# Altium footprint library WiPhoneDB_PcbLib.PcbLib: 1 footprints
Each footprint in its own frame and in the unit in brackets; x right, y up, seen from the top. Pads: shape width x height; smd on the part's side, far side on the other; paste and mask are expansions set on the pad; w line width, h text height; cw(c..) or ccw(c..) is an arc to the next point about the centre after c.
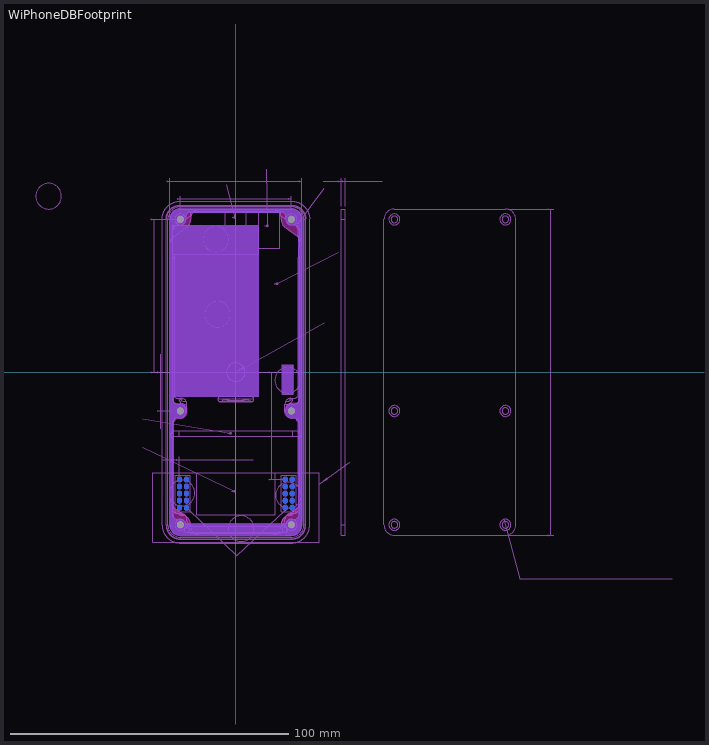
[diagram p0: the footprint, top view; thin cyan lines are the x and y axes]

## WiPhoneDBFootprint [mm]
pads (32):
  round 1 on Mech2: 1(-1.899,-21.979) 1(-0.408,-42.932) 1(-0.379,55.737) 1(11.341,52.675) 1(14.81,31.802) 1(22.462,53.708)
  round 1.75 smd far side paste-1: 1(17.78,-38.67) 2(20.32,-38.67) 3(17.78,-41.21) 4(20.32,-41.21) 5(17.78,-43.75) 6(20.32,-43.75) 7(17.78,-46.29) 8(20.32,-46.29) 9(17.78,-48.83) 10(20.32,-48.83) 12(-17.78,-38.67) 13(-20.32,-41.21) 14(-17.78,-41.21) 15(-20.32,-43.75) 16(-17.78,-43.75) 17(-20.32,-46.29) 18(-17.78,-46.29) 19(-20.32,-48.83) 20(-17.78,-48.83)
  rrect50% 1.75x1.75 smd far side paste-1: 11(-20.32,-38.67)
  round 2.4 hole 2.4 unplated paste-1: ""(-20.005,-14) ""(-20,-55) ""(-20,55) ""(20,-55) ""(20,-14) ""(20,55)
Top Layer keep-out:
  region: 23.749,-54.991 23.749,-55.241 23.684,-55.736 23.555,-56.218 23.363,-56.68 23.114,-57.112 22.81,-57.508 22.457,-57.862 22.06,-58.166 21.628,-58.415 21.166,-58.606 20.684,-58.736 20.189,-58.801 19.939,-58.801 12.954,-58.801 14.605,-58.293 15.512,-57.386 15.679,-57.201 15.956,-56.787 16.147,-56.327 16.244,-55.839 16.256,-55.59 16.256,-54.904 16.253,-54.67 16.309,-54.205 16.427,-53.752 16.605,-53.319 16.838,-52.913 17.124,-52.542 17.456,-52.213 17.83,-51.931 18.034,-51.816 18.613,-51.386 19.779,-50.537 20.954,-49.701 22.138,-48.877 22.734,-48.472 23.386,-47.389 23.564,-46.736 23.749,-46.736
  region: -23.812,-54.991 -23.812,-55.241 -23.747,-55.736 -23.618,-56.218 -23.427,-56.68 -23.177,-57.112 -22.873,-57.508 -22.52,-57.862 -22.124,-58.166 -21.691,-58.415 -21.23,-58.606 -20.747,-58.736 -20.252,-58.801 -20.003,-58.801 -20.002,-58.801 -13.018,-58.801 -14.669,-58.293 -15.576,-57.386 -15.743,-57.201 -16.02,-56.787 -16.21,-56.327 -16.307,-55.839 -16.319,-55.59 -16.32,-55.59 -16.32,-54.904 -16.316,-54.67 -16.373,-54.205 -16.491,-53.752 -16.668,-53.319 -16.902,-52.913 -17.187,-52.542 -17.52,-52.213 -17.894,-51.931 -18.098,-51.816 -18.676,-51.386 -19.842,-50.537 -21.017,-49.701 -22.201,-48.877 -22.797,-48.472 -23.45,-47.389 -23.628,-46.736 -23.812,-46.736
  region: -23.749,54.991 -23.749,55.241 -23.684,55.736 -23.555,56.218 -23.363,56.68 -23.114,57.112 -22.81,57.508 -22.457,57.862 -22.06,58.166 -21.628,58.415 -21.166,58.606 -20.684,58.736 -20.189,58.801 -19.939,58.801 -12.954,58.801 -14.605,58.293 -15.512,57.386 -15.679,57.201 -15.956,56.787 -16.147,56.327 -16.244,55.839 -16.256,55.59 -16.256,54.904 -16.253,54.67 -16.309,54.205 -16.427,53.752 -16.605,53.319 -16.838,52.913 -17.124,52.542 -17.456,52.213 -17.83,51.931 -18.034,51.816 -18.613,51.386 -19.779,50.537 -20.954,49.701 -22.138,48.877 -22.734,48.472 -23.386,47.389 -23.564,46.736 -23.749,46.736
  region: 23.812,54.991 23.812,55.241 23.747,55.736 23.618,56.218 23.427,56.68 23.177,57.112 22.873,57.508 22.52,57.862 22.124,58.166 21.691,58.415 21.23,58.606 20.747,58.736 20.252,58.801 20.003,58.801 20.002,58.801 13.018,58.801 14.669,58.293 15.576,57.386 15.743,57.201 16.02,56.787 16.21,56.327 16.307,55.839 16.319,55.59 16.32,55.59 16.32,54.904 16.316,54.67 16.373,54.205 16.491,53.752 16.668,53.319 16.902,52.913 17.187,52.542 17.52,52.213 17.894,51.931 18.098,51.816 18.676,51.386 19.842,50.537 21.017,49.701 22.201,48.877 22.797,48.472 23.45,47.389 23.628,46.736 23.812,46.736
  region: 22.982,-18.983 22.971,-18.76 22.884,-18.323 22.714,-17.912 22.466,-17.541 22.151,-17.226 21.781,-16.979 21.369,-16.808 20.932,-16.721 20.709,-16.71 20.057,-16.71 19.816,-16.725 19.337,-16.66 18.88,-16.503 18.462,-16.26 18.099,-15.939 17.806,-15.555 17.594,-15.12 17.471,-14.652 17.456,-14.411 17.456,-13.711 17.455,-13.454 17.555,-12.951 17.751,-12.478 18.035,-12.051 18.398,-11.689 18.824,-11.404 19.298,-11.208 19.801,-11.109 20.057,-11.109 21.204,-11.109 21.378,-11.1 21.72,-11.032 22.042,-10.899 22.332,-10.705 22.578,-10.459 22.772,-10.169 22.905,-9.847 22.973,-9.505 22.982,-9.331
  region: 23.749,-51.181 23.749,-54.991 23.749,-55.241 23.684,-55.736 23.555,-56.218 23.363,-56.68 23.114,-57.112 22.81,-57.509 22.456,-57.862 22.06,-58.166 21.628,-58.415 21.166,-58.607 20.684,-58.736 20.189,-58.801 19.939,-58.801 14.732,-58.801 14.732,-57.756 14.884,-57.805 15.197,-57.866 15.516,-57.877 15.832,-57.836 16.137,-57.744 16.424,-57.605 16.685,-57.422 16.913,-57.199 17.102,-56.942 17.248,-56.658 17.346,-56.355 17.394,-56.039 17.399,-55.88 17.333,-55.668 17.27,-55.229 17.279,-54.786 17.358,-54.35 17.506,-53.932 17.719,-53.543 17.991,-53.193 18.316,-52.891 18.685,-52.645 19.088,-52.461 19.516,-52.344 19.957,-52.297 20.178,-52.309 20.355,-52.381 20.726,-52.464 21.107,-52.465 21.479,-52.383 21.824,-52.223 22.126,-51.991 22.371,-51.7 22.547,-51.362 22.606,-51.181
  region: -16.181,-58.749 -19.991,-58.749 -20.241,-58.749 -20.736,-58.684 -21.218,-58.555 -21.68,-58.363 -22.112,-58.114 -22.509,-57.81 -22.862,-57.456 -23.166,-57.06 -23.415,-56.628 -23.607,-56.166 -23.736,-55.684 -23.801,-55.189 -23.801,-54.939 -23.801,-49.732 -22.756,-49.732 -22.805,-49.884 -22.866,-50.197 -22.877,-50.516 -22.836,-50.832 -22.744,-51.137 -22.605,-51.424 -22.422,-51.685 -22.199,-51.913 -21.942,-52.102 -21.658,-52.248 -21.355,-52.346 -21.04,-52.394 -20.88,-52.399 -20.668,-52.333 -20.229,-52.27 -19.786,-52.279 -19.35,-52.358 -18.932,-52.506 -18.543,-52.719 -18.193,-52.991 -17.891,-53.316 -17.645,-53.685 -17.461,-54.088 -17.344,-54.516 -17.297,-54.957 -17.309,-55.178 -17.381,-55.355 -17.464,-55.726 -17.465,-56.107 -17.383,-56.479 -17.223,-56.824 -16.991,-57.126 -16.7,-57.371 -16.362,-57.547 -16.181,-57.606
  region: 16.181,58.749 19.991,58.749 20.241,58.749 20.736,58.684 21.218,58.555 21.68,58.363 22.112,58.114 22.509,57.81 22.862,57.456 23.166,57.06 23.415,56.628 23.607,56.166 23.736,55.684 23.801,55.189 23.801,54.939 23.801,49.732 22.756,49.732 22.805,49.884 22.866,50.197 22.877,50.516 22.836,50.832 22.744,51.137 22.605,51.424 22.422,51.685 22.199,51.913 21.942,52.102 21.658,52.248 21.355,52.346 21.04,52.394 20.88,52.399 20.668,52.333 20.229,52.27 19.786,52.279 19.35,52.358 18.932,52.506 18.543,52.719 18.193,52.991 17.891,53.316 17.645,53.685 17.461,54.088 17.344,54.516 17.297,54.957 17.309,55.178 17.381,55.355 17.464,55.726 17.465,56.107 17.383,56.479 17.223,56.824 16.991,57.126 16.7,57.371 16.362,57.547 16.181,57.606
  region: -23.749,51.181
  region: -16.181,-58.674 -16.181,-57.785 15.621,-57.785 15.621,-58.674
  region: -14.732,57.912 -14.732,58.801 16.256,58.801 16.256,57.912
  region: -23.749,51.181 -23.749,-50.8 -22.987,-50.8 -22.987,51.181
  region: 22.987,51.181 22.987,-51.181 23.749,-51.181 23.749,51.181
  region: -23.749,51.181 -23.749,54.991 -23.749,55.241 -23.684,55.736 -23.555,56.218 -23.363,56.68 -23.114,57.112 -22.81,57.509 -22.456,57.862 -22.06,58.166 -21.628,58.415 -21.166,58.607 -20.684,58.736 -20.189,58.801 -19.939,58.801 -14.732,58.801 -14.732,57.756 -14.884,57.805 -15.197,57.866 -15.516,57.877 -15.832,57.836 -16.137,57.744 -16.424,57.605 -16.685,57.422 -16.913,57.199 -17.102,56.942 -17.248,56.658 -17.346,56.355 -17.394,56.039 -17.399,55.88 -17.333,55.668 -17.27,55.229 -17.279,54.786 -17.358,54.35 -17.506,53.932 -17.719,53.543 -17.991,53.193 -18.316,52.891 -18.685,52.645 -19.088,52.461 -19.516,52.344 -19.957,52.297 -20.178,52.309 -20.355,52.381 -20.726,52.464 -21.107,52.465 -21.479,52.383 -21.824,52.223 -22.126,51.991 -22.371,51.7 -22.547,51.362 -22.606,51.181
  region: -22.987,-9.017 -22.976,-9.24 -22.889,-9.677 -22.719,-10.088 -22.471,-10.459 -22.156,-10.774 -21.786,-11.021 -21.374,-11.192 -20.937,-11.279 -20.714,-11.29 -20.062,-11.29 -19.821,-11.275 -19.342,-11.34 -18.885,-11.497 -18.467,-11.74 -18.104,-12.061 -17.811,-12.445 -17.599,-12.88 -17.476,-13.348 -17.461,-13.589 -17.461,-14.289 -17.46,-14.546 -17.56,-15.049 -17.756,-15.522 -18.04,-15.949 -18.403,-16.311 -18.829,-16.596 -19.303,-16.792 -19.806,-16.891 -20.062,-16.891 -21.209,-16.891 -21.383,-16.9 -21.725,-16.968 -22.047,-17.101 -22.337,-17.295 -22.583,-17.541 -22.777,-17.831 -22.91,-18.153 -22.978,-18.495 -22.987,-18.669
Bottom Layer keep-out:
  region: -22.484,-17.205 -22.312,-17.057 -21.929,-16.815 -21.506,-16.652 -21.06,-16.575 -20.833,-16.57 -19.817,-16.57 -19.644,-16.566 -19.308,-16.485 -18.996,-16.335 -18.722,-16.123 -18.61,-15.991 -18.102,-15.355 -18.056,-15.298 -17.985,-15.17 -17.937,-15.032 -17.912,-14.887 -17.912,-14.814 -17.912,-13.351 -17.912,-13.181 -17.979,-12.846 -18.109,-12.53 -18.299,-12.246 -18.42,-12.125 -18.438,-12.107 -18.615,-11.93 -19.031,-11.652 -19.493,-11.461 -19.984,-11.363 -20.234,-11.363 -21.363,-11.363 -21.448,-11.359 -21.615,-11.326 -21.772,-11.261 -21.913,-11.166 -21.976,-11.109 -22.006,-11.079 -22.077,-11.031 -22.156,-10.999 -22.24,-10.982 -22.283,-10.982 -22.484,-10.982
  region: 22.479,-10.795 22.307,-10.943 21.924,-11.185 21.501,-11.348 21.055,-11.425 20.828,-11.43 19.812,-11.43 19.639,-11.434 19.303,-11.515 18.991,-11.665 18.717,-11.877 18.605,-12.009 18.097,-12.645 18.051,-12.702 17.98,-12.83 17.932,-12.968 17.907,-13.113 17.907,-13.186 17.907,-14.649 17.907,-14.819 17.974,-15.154 18.104,-15.47 18.294,-15.754 18.415,-15.875 18.433,-15.893 18.61,-16.07 19.026,-16.348 19.488,-16.539 19.979,-16.637 20.229,-16.637 21.358,-16.637 21.443,-16.641 21.61,-16.674 21.767,-16.739 21.908,-16.834 21.971,-16.891 22.001,-16.921 22.072,-16.969 22.151,-17.001 22.235,-17.018 22.278,-17.018 22.479,-17.018
  region: 17.907,-14.224
  region: 17.907,-14.224
  region: 17.578,-57.256 -17.532,-57.256 -17.542,-57.246 -17.542,-58.801 17.578,-58.801
  region: 16.637,2.54 20.701,2.54 20.701,-7.874 16.637,-7.874
  region: 15.621,3.683
  region: -18.069,-54.632 -18.069,-54.624 -18.063,-54.608 -18.051,-54.596 -18.035,-54.589 -18.026,-54.589 17.984,-54.589 18.034,-54.639 18.034,-58.801 -18.034,-58.801 -18.069,-58.766
  region: -23.876,-52.578 -23.876,52.407 -22.404,52.407 -22.43,-52.578
  region: 22.404,-52.399 22.404,52.403 22.4,52.439 22.373,52.505 22.322,52.556 22.256,52.583 22.221,52.586 23.876,52.586 23.85,-52.399
  region: -11.43,56.642
  region: -20.955,58.674
  region: -20.32,58.801 19.812,58.801 19.812,57.404 -20.32,57.404
  region: -22.86,52.705 -22.86,-8.89 8.255,-8.89 8.255,52.705
  region: 17.399,57.404 17.542,57.246 17.778,56.893 17.941,56.5 18.024,56.083 18.034,55.871 18.034,54.991 18.034,54.81 18.105,54.454 18.243,54.12 18.445,53.818 18.573,53.69 18.923,53.34 19.014,53.249 19.227,53.107 19.463,53.009 19.715,52.959 19.843,52.959 21.336,52.959 21.456,52.953 21.692,52.906 21.914,52.814 22.114,52.681 22.203,52.6 22.208,52.595 22.221,52.586 22.234,52.581 22.248,52.578 22.256,52.578 23.876,52.578 23.876,54.991 23.876,55.241 23.811,55.736 23.682,56.218 23.49,56.68 23.241,57.112 22.937,57.509 22.583,57.862 22.187,58.166 21.755,58.415 21.293,58.607 20.811,58.736 20.316,58.801 20.066,58.801 17.399,58.801
  region: 22.733,57.658
  region: -22.404,52.399 -22.246,52.542 -21.893,52.778 -21.5,52.941 -21.083,53.024 -20.871,53.034 -19.991,53.034 -19.81,53.034 -19.454,53.105 -19.12,53.243 -18.818,53.445 -18.69,53.573 -18.34,53.923 -18.249,54.014 -18.107,54.227 -18.009,54.463 -17.959,54.715 -17.959,54.843 -17.959,56.336 -17.953,56.456 -17.906,56.692 -17.814,56.914 -17.681,57.114 -17.6,57.203 -17.595,57.208 -17.586,57.221 -17.581,57.234 -17.578,57.248 -17.578,57.256 -17.578,58.876 -19.991,58.876 -20.241,58.876 -20.736,58.811 -21.218,58.682 -21.68,58.49 -22.112,58.241 -22.509,57.937 -22.862,57.583 -23.166,57.187 -23.415,56.755 -23.607,56.293 -23.736,55.811 -23.801,55.316 -23.801,55.066 -23.801,52.399
  region: -17.399,-57.404 -17.542,-57.246 -17.778,-56.893 -17.941,-56.5 -18.024,-56.083 -18.034,-55.871 -18.034,-54.991 -18.034,-54.81 -18.105,-54.454 -18.243,-54.12 -18.445,-53.818 -18.573,-53.69 -18.923,-53.34 -19.014,-53.249 -19.227,-53.107 -19.463,-53.009 -19.715,-52.959 -19.843,-52.959 -21.336,-52.959 -21.456,-52.953 -21.692,-52.906 -21.914,-52.814 -22.114,-52.681 -22.203,-52.6 -22.208,-52.595 -22.221,-52.586 -22.234,-52.581 -22.248,-52.578 -22.256,-52.578 -23.876,-52.578 -23.876,-54.991 -23.876,-55.241 -23.811,-55.736 -23.682,-56.218 -23.49,-56.68 -23.241,-57.112 -22.937,-57.509 -22.583,-57.862 -22.187,-58.166 -21.755,-58.415 -21.293,-58.607 -20.811,-58.736 -20.316,-58.801 -20.066,-58.801 -17.399,-58.801
  region: 22.404,-52.399 22.246,-52.542 21.893,-52.778 21.5,-52.941 21.083,-53.024 20.871,-53.034 19.991,-53.034 19.81,-53.034 19.454,-53.105 19.12,-53.243 18.818,-53.445 18.69,-53.573 18.34,-53.923 18.249,-54.014 18.107,-54.227 18.009,-54.463 17.959,-54.715 17.959,-54.843 17.959,-56.336 17.953,-56.456 17.906,-56.692 17.814,-56.914 17.681,-57.114 17.6,-57.203 17.595,-57.208 17.586,-57.221 17.581,-57.234 17.578,-57.248 17.578,-57.256 17.578,-58.876 19.991,-58.876 20.241,-58.876 20.736,-58.811 21.218,-58.682 21.68,-58.49 22.112,-58.241 22.508,-57.937 22.862,-57.583 23.166,-57.187 23.415,-56.755 23.606,-56.293 23.736,-55.811 23.801,-55.316 23.801,-55.066 23.85,-52.399
Mechanical 1:
  lines w0.2: -23.85,-55 ccw(c-20,-55) -20,-58.85 ; -23.85,-55 ccw(c-20,-55) -20,-58.85 ; -23.85,-55 -23.85,55 ; -23.85,-55 -23.85,55 ; -23.85,55 cw(c-20,55) -20,58.85 ; -23.85,55 cw(c-20,55) -20,58.85 ; -20,-58.85 20,-58.85 ; -20,-58.85 20,-58.85 ; -20,58.85 20,58.85 ; -20,58.85 20,58.85 ; 20,-58.85 ccw(c20,-55) 23.85,-55 ; 20,-58.85 ccw(c20,-55) 23.85,-55 ; 20,58.85 cw(c20,55) 23.85,55 ; 20,58.85 cw(c20,55) 23.85,55 ; 23.85,-55 23.85,55 ; 23.85,-55 23.85,55
BottomKeepouts:
  drawing of 390 lines, arcs and shapes, not listed
  text "X" at 0.889,-57.531 h2.52
  text "X" at 17.907,-45.466 h2.52
  text "X" at -20.447,-44.704 h2.52
  text "X" at 17.653,-4.064 h2.52
  text "X" at -8.255,46.736 h2.52
  text "X" at -7.62,19.685 h2.52
  text "X" at -68.453,62.23 h2.52
  text "keepout" at -58.689,60.097 h3.5
  text "total" at -58.689,64.622 h3.5
  text "3.5mm" at -19.059,65.967 h3.5
  text "1.5mm" at 11.602,71.562 h3.5
  text "total" at 32.437,64.622 h3.5
  text "keepout" at 32.437,60.097 h3.5
  text "Max Component Heights" at -49.022,86.36 h5.29
  text "1.5mm" at -49.092,-28.518 h3.5
  text "1.3mm" at -49.092,-18.371 h3.5
  text "rear of phone." at -74.93,34.417 h3.5
  text "Center" at 32.437,16.352 h3.5
  text "to maintain" at 41.482,-47.58 h3.5
  text "components and" at 41.482,-38.529 h3.5
  text "4.5mm max" at 37.543,41.683 h3.5
  text "antenna strength" at 41.482,-52.106 h3.5
  text "copper in this area" at 41.482,-43.054 h3.5
  text "minimize" at 41.482,-34.003 h3.5
  text "otherwise noted" at 37.543,28.106 h3.5
  text "component" at 37.543,37.158 h3.5
  text "height unless" at 37.543,32.632 h3.5
  text "2019 - October 21" at 97.507,-93.443 h3.5
  text "all dimensions in mm" at -128.61,-93.443 h3.5
  text "as viewed from" at -74.93,38.608 h3.5
Dimensions:
  drawing of 167 lines, arcs and shapes, not listed
  text "Daughterboard Dimensions" at 0.01,90.711 h5.29
  text "2019 - March 25" at 108.027,-86.679 h3.5
  text "all dimensions in mm" at -23.446,-87.899 h3.5
  text "47.5" at -4.113,73.262 h3.5
  text "40" at -3.175,63.5 h3.5
  text "55" at -33.983,22.101 h3.5
  text "14" at -31.587,-10.599 h3.5
  text "20.3" at -15.087,-27.051 h3.5
  text "38.7" at 8.449,-22.655 h3.5
  text "Daughterboard pogo" at 0.077,-77.154 h3.5
  text "header landing area" at 0.077,-72.074 h3.5
  text "inner surface" at -20.878,13.016 h3.5
  text "1.6" at 46.241,73.262 h3.5
  text "117.50" at 108.925,-4.62 h3.5
  text "4x -" at 114.631,-64.196 h3.5
  text "2.4 THRU" at 127.581,-64.196 h3.5
  text "4" at 118.597,-69.806 h3.5
  text "X 90 (optional)" at 122.496,-69.806 h3.5
  text "outer surface" at 55.957,9.206 h3.5
TopKeepouts:
  drawing of 994 lines, arcs and shapes, not listed
  text "Top Keepouts" at -21.209,-69.98 h3.5